# Altium footprint library Chip_kz85.PcbLib: 312 footprints (part 1 of 20)
Each footprint in its own frame and in the unit in brackets; x right, y up, seen from the top. Pads: shape width x height; smd on the part's side, far side on the other; paste and mask are expansions set on the pad; w line width, h text height; cw(c..) or ccw(c..) is an arc to the next point about the centre after c.
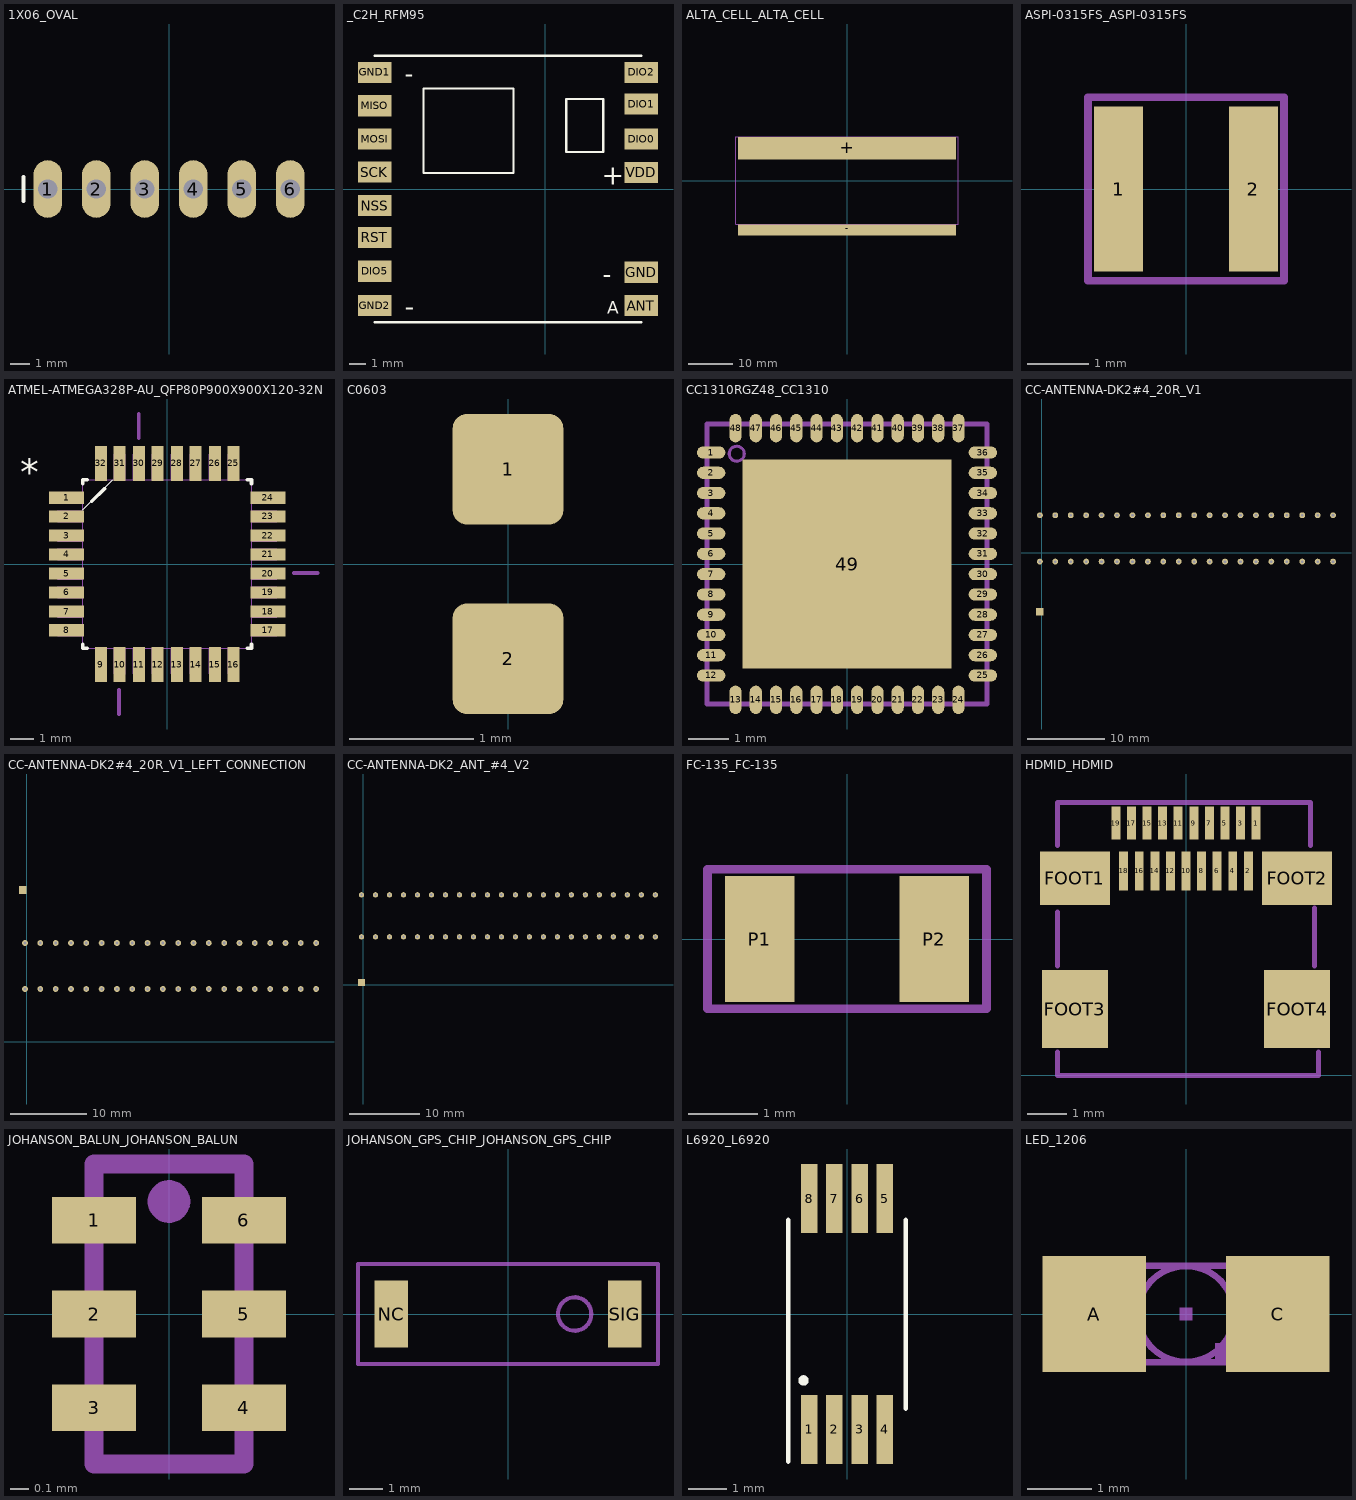
[diagram p0: the footprints below, top view; thin cyan lines are the x and y axes]

## 1X06_OVAL [mm]
pads (6):
  oval 1.508x3.016 / inner round 0 / far side oval 1.508x3.016 hole 1: 1(-6.35,0) 2(-3.81,0) 3(-1.27,0) 4(1.27,0) 5(3.81,0) 6(6.35,0)
Top Overlay:
  lines w0.203: -7.62,-0.635 -7.62,0.635
Mechanical 3:
  region: 3.556,-0.254 3.556,0.254 4.064,0.254 4.064,-0.254
  region: 1.016,-0.254 1.016,0.254 1.524,0.254 1.524,-0.254
  region: -1.524,-0.254 -1.524,0.254 -1.016,0.254 -1.016,-0.254
  region: -4.064,-0.254 -4.064,0.254 -3.556,0.254 -3.556,-0.254
  region: -6.604,-0.254 -6.604,0.254 -6.096,0.254 -6.096,-0.254
  region: 6.096,-0.254 6.096,0.254 6.604,0.254 6.604,-0.254

## _C2H_RFM95 [mm]
pads (14):
  rect 2x1.27 smd: ANT(5.777,-7) DIO0(5.777,3) DIO1(5.78,5.095) DIO2(5.78,7) DIO5(-10.225,-4.936) GND(5.777,-5) GND1(-10.222,7) GND2(-10.23,-7) MISO(-10.23,5) MOSI(-10.225,3) NSS(-10.222,-1) RST(-10.222,-2.905) SCK(-10.23,1.012) VDD(5.777,1)
Top Overlay:
  lines w0.127: -10.23,-8 5.777,-8 ; -10.23,8 5.777,8 ; -7.302,0.953 -7.302,6.032 -1.905,6.032 -1.905,0.953 -7.302,0.953 ; 1.27,2.222 3.492,2.222 3.492,5.397 1.27,5.397 1.27,2.222
  text "-" at -8.433,6.401 h1.08
  text "-" at -8.42,-7.633 h1.19
  text "-" at 3.465,-5.639 h1.08
  text "A" at 3.732,-7.503 h0.76
  text "+" at 3.402,0.266 h1.19

## ALTA_CELL_ALTA_CELL [mm]
pads (2):
  rect 49x5 smd: +(0,7.3)
  rect 49x2.5 smd: -(0,-11.05)
Mechanical 7:
  lines w0.127: -25,-9.8 25,-9.8 25,9.8 -25,9.8 -25,-9.8

## ASPI-0315FS_ASPI-0315FS [mil]
pads (2):
  rect 31.5x106.3 smd: 1(-43.31,0) 2(43.31,0)
Mechanical 7:
  lines w5: -62.99,-59.06 -62.99,59.06 62.99,59.06 62.99,-59.06 -62.99,-59.06

## ATMEL-ATMEGA328P-AU_QFP80P900X900X120-32N [mil]
pads (32):
  rect 58x20 smd: 1(-167,110) 2(-167,79) 3(-167,47) 4(-167,16) 5(-167,-16) 6(-167,-47) 7(-167,-79) 8(-167,-110) 17(167,-110) 18(167,-79) 19(167,-47) 20(167,-16) 21(167,16) 22(167,47) 23(167,79) 24(167,110)
  rect 20x58 smd: 9(-110,-167) 10(-79,-167) 11(-47,-167) 12(-16,-167) 13(16,-167) 14(47,-167) 15(79,-167) 16(110,-167) 25(110,167) 26(79,167) 27(47,167) 28(16,167) 29(-16,167) 30(-47,167) 31(-79,167) 32(-110,167)
Top Overlay:
  lines w0: -140,90 -90,140
  lines w6: -140,-133 -140,-140 -133,-140 ; -140,133 -140,140 -133,140 ; -125,104 -104,125 ; 133,-140 140,-140 140,-133 ; 133,140 140,140 140,133
  text "*" at -244,116 h77.5
Mechanical 3:
  lines w0: -182,-119 -182,-101 -140,-101 -140,-119 -182,-119 ; -182,-88 -182,-70 -140,-70 -140,-88 -182,-88 ; -182,-56 -182,-38 -140,-38 -140,-56 -182,-56 ; -182,-25 -182,-7 -140,-7 -140,-25 -182,-25 ; -182,7 -182,25 -140,25 -140,7 -182,7 ; -182,38 -182,56 -140,56 -140,38 -182,38 ; -182,70 -182,88 -140,88 -140,70 -182,70 ; -182,101 -182,119 -140,119 -140,101 -182,101 ; -140,-140 140,-140 140,140 -140,140 -140,-140 ; -119,-182 -119,-140 -101,-140 -101,-182 -119,-182 ; -119,140 -101,140 -101,182 -119,182 -119,140 ; -88,-182 -88,-140 -70,-140 -70,-182 -88,-182 ; -88,140 -70,140 -70,182 -88,182 -88,140 ; -56,-182 -56,-140 -38,-140 -38,-182 -56,-182 ; -56,140 -38,140 -38,182 -56,182 -56,140 ; -25,-182 -25,-140 -7,-140 -7,-182 -25,-182 ; -25,140 -7,140 -7,182 -25,182 -25,140 ; 7,-182 7,-140 25,-140 25,-182 7,-182 ; 7,140 25,140 25,182 7,182 7,140 ; 38,-182 38,-140 56,-140 56,-182 38,-182 ; 38,140 56,140 56,182 38,182 38,140 ; 70,-182 70,-140 88,-140 88,-182 70,-182 ; 70,140 88,140 88,182 70,182 70,140 ; 101,-182 101,-140 119,-140 119,-182 101,-182 ; 101,140 119,140 119,182 101,182 101,140 ; 140,-119 140,-101 182,-101 182,-119 140,-119 ; 140,-88 140,-70 182,-70 182,-88 140,-88 ; 140,-56 140,-38 182,-38 182,-56 140,-56 ; 140,-25 140,-7 182,-7 182,-25 140,-25 ; 140,7 140,25 182,25 182,7 140,7 ; 140,38 140,56 182,56 182,38 140,38 ; 140,70 140,88 182,88 182,70 140,70 ; 140,101 140,119 182,119 182,101 140,101
  lines w6: -80,-249 -80,-209 ; -47,209 -47,249 ; 210,-15 250,-15
Mechanical 7:
  text "*" at -244,116 h77.5

## C0603 [mil]
pads (2):
  rrect25% 35x35 smd: 1(0,30) 2(0,-30)

## CC1310RGZ48_CC1310 [mm]
pads (49):
  rrect100% 0.7x0.3 smd: 1(-3.35,2.75) 2(-3.35,2.25) 3(-3.35,1.75) 4(-3.35,1.25) 5(-3.35,0.75) 6(-3.35,0.25) 7(-3.35,-0.25) 8(-3.35,-0.75) 9(-3.35,-1.25) 10(-3.35,-1.75) 11(-3.35,-2.25) 12(-3.35,-2.75) 25(3.35,-2.75) 26(3.35,-2.25) 27(3.35,-1.75) 28(3.35,-1.25) 29(3.35,-0.75) 30(3.35,-0.25) 31(3.35,0.25) 32(3.35,0.75) 33(3.35,1.25) 34(3.35,1.75) 35(3.35,2.25) 36(3.35,2.75)
  rrect100% 0.3x0.7 smd: 13(-2.75,-3.35) 14(-2.25,-3.35) 15(-1.75,-3.35) 16(-1.25,-3.35) 17(-0.75,-3.35) 18(-0.25,-3.35) 19(0.25,-3.35) 20(0.75,-3.35) 21(1.25,-3.35) 22(1.75,-3.35) 23(2.25,-3.35) 24(2.75,-3.35) 37(2.75,3.35) 38(2.25,3.35) 39(1.75,3.35) 40(1.25,3.35) 41(0.75,3.35) 42(0.25,3.35) 43(-0.25,3.35) 44(-0.75,3.35) 45(-1.25,3.35) 46(-1.75,3.35) 47(-2.25,3.35) 48(-2.75,3.35)
  rect 5.15x5.15 smd: 49(0,0)
Mechanical 7:
  circle w0.075: c-2.72,2.72 r0.185
  lines w0.127: -3.45,-3.45 -3.45,3.45 3.45,3.45 3.45,-3.45 -3.45,-3.45

## CC-ANTENNA-DK2#4_20R_V1 [mm]
pads (41):
  round 0.756 hole 0.35: 1(-0.216,4.876) 2(1.784,-1.124) 3(1.784,4.876) 4(3.784,-1.124) 5(3.784,4.876) 6(5.784,-1.124) 7(5.784,4.876) 8(7.784,-1.124) 9(7.784,4.876) 10(9.784,-1.124) 11(9.784,4.876) 12(11.784,-1.124) 13(11.784,4.876) 14(13.784,-1.124) 15(13.784,4.876) 16(15.784,-1.124) 17(15.784,4.876) 18(17.784,-1.124) 19(17.784,4.876) 20(19.784,-1.124) 21(19.784,4.876) 22(21.784,-1.124) 23(21.784,4.876) 24(23.784,-1.124) 25(23.784,4.876) 26(25.784,-1.124) 27(25.784,4.876) 28(27.784,-1.124) 29(27.784,4.876) 30(29.784,-1.124) 31(29.784,4.876) 32(31.784,-1.124) 33(31.784,4.876) 34(33.784,-1.124) 35(33.784,4.876) 36(35.784,-1.124) 37(35.784,4.876) 38(37.784,-1.124) 39(37.784,4.876) ANTENNA(-0.216,-1.124)
  rect 1x1 smd: ANTENNA(-0.216,-7.624)

## CC-ANTENNA-DK2#4_20R_V1_LEFT_CONNECTION [mm]
pads (41):
  round 0.756 hole 0.35: 1(-0.216,12.876) 2(1.784,6.876) 3(1.784,12.876) 4(3.784,6.876) 5(3.784,12.876) 6(5.784,6.876) 7(5.784,12.876) 8(7.784,6.876) 9(7.784,12.876) 10(9.784,6.876) 11(9.784,12.876) 12(11.784,6.876) 13(11.784,12.876) 14(13.784,6.876) 15(13.784,12.876) 16(15.784,6.876) 17(15.784,12.876) 18(17.784,6.876) 19(17.784,12.876) 20(19.784,6.876) 21(19.784,12.876) 22(21.784,6.876) 23(21.784,12.876) 24(23.784,6.876) 25(23.784,12.876) 26(25.784,6.876) 27(25.784,12.876) 28(27.784,6.876) 29(27.784,12.876) 30(29.784,6.876) 31(29.784,12.876) 32(31.784,6.876) 33(31.784,12.876) 34(33.784,6.876) 35(33.784,12.876) 36(35.784,6.876) 37(35.784,12.876) 38(37.784,6.876) 39(37.784,12.876) ANTENNA(-0.216,6.876)
  rect 1x1 smd: ANTENNA(-0.5,19.8)

## CC-ANTENNA-DK2_ANT_#4_V2 [mm] "433MHZ - 510 MHZ"
pads (45):
  round 0.756 hole 0.35: 1(-0.216,12.876) 2(1.784,6.876) 3(1.784,12.876) 4(3.784,6.876) 5(3.784,12.876) 6(5.784,6.876) 7(5.784,12.876) 8(7.784,6.876) 9(7.784,12.876) 10(9.784,6.876) 11(9.784,12.876) 12(11.784,6.876) 13(11.784,12.876) 14(13.784,6.876) 15(13.784,12.876) 16(15.784,6.876) 17(15.784,12.876) 18(17.784,6.876) 19(17.784,12.876) 20(19.784,6.876) 21(19.784,12.876) 22(21.784,6.876) 23(21.784,12.876) 24(23.784,6.876) 25(23.784,12.876) 26(25.784,6.876) 27(25.784,12.876) 28(27.784,6.876) 29(27.784,12.876) 30(29.784,6.876) 31(29.784,12.876) 32(31.784,6.876) 33(31.784,12.876) 34(33.784,6.876) 35(33.784,12.876) 36(35.784,6.876) 37(35.784,12.876) 38(37.784,6.876) 39(37.784,12.876) 40(39.784,6.876) 41(39.784,12.876) 42(41.784,6.876) 43(41.784,12.876) ANTENNA(-0.216,6.876)
  rect 1x1 smd: ANTENNA(-0.216,0.376)

## FC-135_FC-135 [mm]
pads (2):
  rect 1x1.8 smd: P1(-1.25,0) P2(1.25,0)
Mechanical 7:
  lines w0.127: -2,-1 -2,1 2,1 2,-1 -2,-1

## HDMID_HDMID [mm]
pads (23):
  rect 0.23x0.85 smd: 1(1.8,6.475) 3(1.4,6.475) 5(1,6.475) 7(0.6,6.475) 9(0.2,6.475) 11(-0.2,6.475) 13(-0.6,6.475) 15(-1,6.475) 17(-1.4,6.475) 19(-1.8,6.475)
  rect 0.23x1 smd: 2(1.6,5.25) 4(1.2,5.25) 6(0.8,5.25) 8(0.4,5.25) 10(0,5.25) 12(-0.4,5.25) 14(-0.8,5.25) 16(-1.2,5.25) 18(-1.6,5.25)
  rect 1.8x1.38 smd: FOOT1(-2.85,5.06) FOOT2(2.85,5.06)
  rect 1.7x2 smd: FOOT3(-2.85,1.7) FOOT4(2.85,1.7)
Mechanical 7:
  lines w0.127: -3.3,0.6 -3.3,0 3.4,0 3.4,0.6 ; -3.3,2.8 -3.3,4.2 ; -3.3,5.9 -3.3,7 3.2,7 3.2,5.9 ; 3.3,2.8 3.3,4.3

## JOHANSON_BALUN_JOHANSON_BALUN [mil]
pads (6):
  rect 17.72x9.84 smd: 1(-15.75,19.69) 2(-15.75,0) 3(-15.75,-19.69) 4(15.75,-19.69) 5(15.75,0) 6(15.75,19.69)
Mechanical 7:
  circle w5: c0,23.62 r1.97
  lines w4: -15.75,-31.5 15.75,-31.5 15.75,31.5 -15.75,31.5 -15.75,-31.5

## JOHANSON_GPS_CHIP_JOHANSON_GPS_CHIP [mm]
pads (2):
  rect 1x2 smd: NC(-3.5,0) SIG(3.5,0)
Mechanical 7:
  circle w0.127: c2,0 r0.5
  lines w0.127: -4.5,-1.5 4.5,-1.5 4.5,1.5 -4.5,1.5 -4.5,-1.5

## L6920_L6920 [mil]
pads (8):
  rect 16.54x70.08 smd: 1(-38.39,-116.93) 2(-12.8,-116.93) 3(12.8,-116.93) 4(38.39,-116.93) 5(38.39,116.93) 6(12.8,116.93) 7(-12.8,116.93) 8(-38.39,116.93)
Top Overlay:
  circle w5: c-44.09,-67.32 r2.78
  lines w5: -59.55,-149.61 -59.55,95.39 ; 59.55,-95.61 59.55,95.39

## LED_1206 [mil]
pads (2):
  rect 62.99x70.98 smd: A(-55.98,0) C(55.98,0)
Mechanical 3:
  region: -35.43,21.65 -35.43,27.56 -31.5,27.56 -31.5,21.65
  region: -35.43,-27.56 -35.43,19.69 -31.5,19.69 -31.5,-27.56
  region: 31.5,21.65 31.5,27.56 35.43,27.56 35.43,21.65
  region: 31.5,-27.56 31.5,19.69 35.43,19.69 35.43,-27.56
  region: 17.72,-27.56 17.72,-17.72 31.5,-17.72 31.5,-27.56
  lines w4: -21.65,-19.69 cw(c0.01,0) -21.65,19.69 ; 21.65,-19.69 ccw(c-0.01,0) 21.65,19.69 ; -61.02,-29.53 -61.02,29.53 61.02,29.53 61.02,-29.53 -61.02,-29.53
Mechanical 7:
  region: 17.72,-27.56 17.72,-17.72 23.62,-17.72 23.62,-27.56
  region: -3.94,-3.94 -3.94,3.94 3.94,3.94 3.94,-3.94
  lines w4: -21.65,-19.69 ccw(c0,-0.01) 21.65,-19.69 ; -21.65,19.69 cw(c0,0.01) 21.65,19.69